# Altium schematic symbol library K60封装.SCHLIB: 2 symbols
Pins are listed as number, name and electrical type; pins without a type are passive.

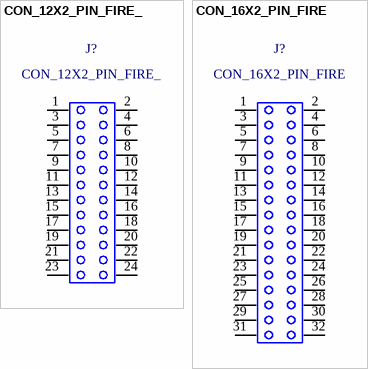
[diagram p0: symbols CON_12X2_PIN_FIRE_ to CON_16X2_PIN_FIRE]

## CON_12X2_PIN_FIRE_
designator J?
12X2,pin,2.54mm; PCB DECAL: CON-12X2-2.54
pins: 1, 2, 3, 4, 5, 6, 7, 8, 9, 10, 11, 12, 13, 14, 15, 16, 17, 18, 19, 20, 21, 22, 23, 24

## CON_16X2_PIN_FIRE
designator J?
16X2,pin,2.54mm; PCB DECAL: CON-16X2-2.54
pins: 1, 2, 3, 4, 5, 6, 7, 8, 9, 10, 11, 12, 13, 14, 15, 16, 17, 18, 19, 20, 21, 22, 23, 24, 25, 26, 27, 28, 29, 30, 31, 32